# Altium integrated library Analog Devices Switches and Multiplexers Multiplexers (Muxes).IntLib: 481 symbols (part 3 of 23)
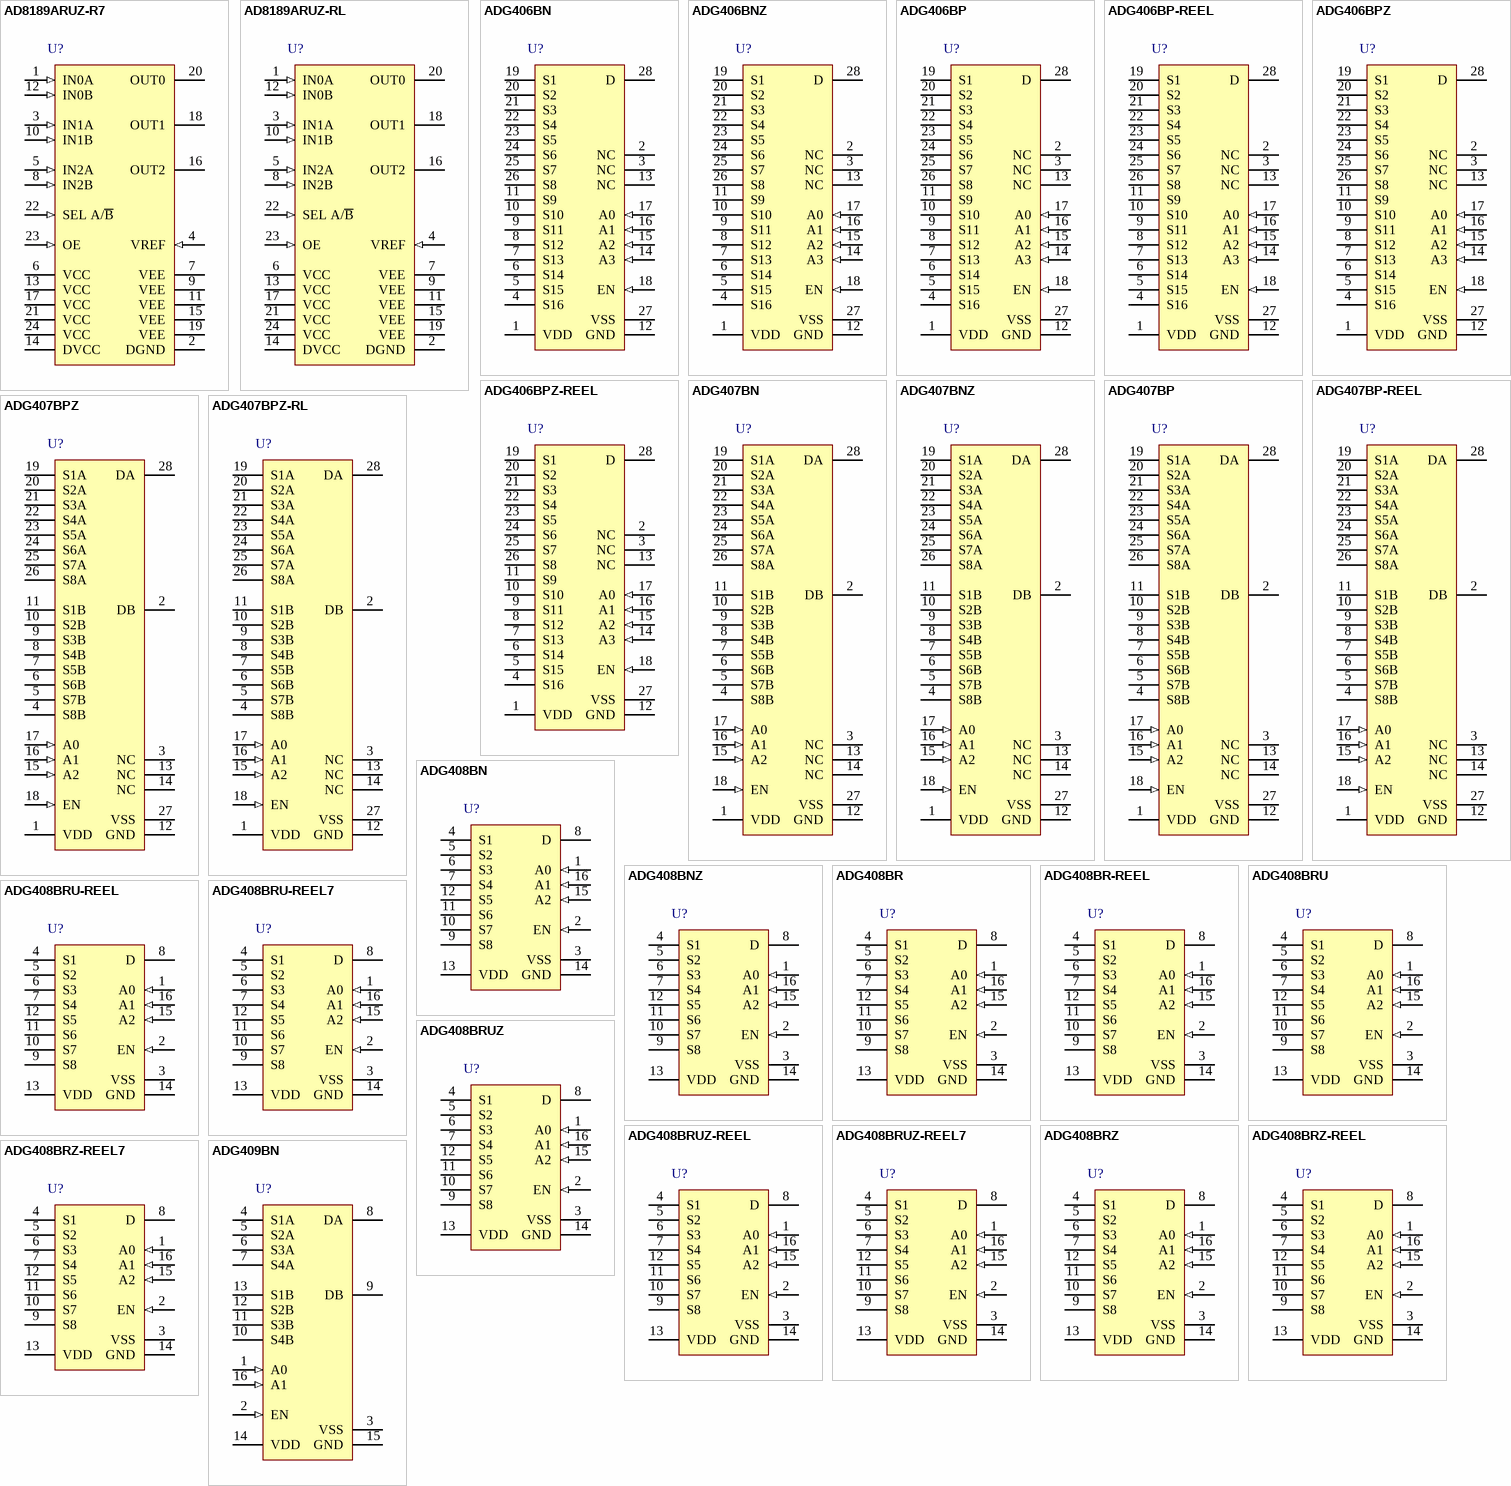
[diagram p19: symbols AD8189ARUZ-R7 to ADG409BN]

## AD8189ARUZ-R7
designator U?
350 MHz Single-Supply (5 V) Triple 2:1 Multiplexer, 24-pin SOP (RU-24), Reel; Manufacturer: Analog Devices; PartNumber: AD8189ARUZ-R7; Bandwidth (Hz): 350M; Max Analog Signal Range: 1.3V to 3.7V; t transition (s): 4n; DatasheetVersion: Rev. 0; PackageVersion: Nov-02; PackageReference: RU-24; PackageDescription: 24-Pin Thin Shrink Small Outline Package, Body 7.8 x 4.4 mm, Pitch 0.65 mm; Supplier 1: Digi-Key; Supplier Part Number 1: AD8189ARUZ-R7-ND; Supplier 2: Mouser; Supplier Part Number 2: 584-AD8189ARUZ-R7; Packing: Reel; Mounting Technology: Surface Mount; Code_JEDEC: MO-153AD; ComponentLink1Description: Manufacturer URL; ComponentLink1URL: http://www.analog.com/en/index.html; ComponentLink2Description: Datasheet; ComponentLink2URL: http://www.analog.com/static/imported-files/data_sheets/AD8188_8189.pdf; ComponentLink3Description: Package Specification; ComponentLink3URL: http://www.analog.com/static/imported-files/packages/380523655245964505593671154107510036154RU24.pdf
footprint ADI-RU-24_N (SOP, 24-Leads, Body 7.8x4.4mm, Pitch 0.65mm, IPC Medium Density)
footprint ADI-RU-24_L (SOP, 24-Leads, Body 7.8x4.4mm, Pitch 0.65mm, IPC High Density)
footprint ADI-RU-24_M (SOP, 24-Leads, Body 7.8x4.4mm, Pitch 0.65mm, IPC Low Density)
pins: 1 IN0A (in) "Input, High-ZIN. Routed to OUT0 when A is selected.", 2 DGND (power) "Ground Reference for Digital Control Circuitry.", 3 IN1A (in) "Input, High-ZIN. Routed to OUT1 when A is selected.", 4 VREF (in) "Input to reference buffers for all channels. Can be used to offset the outputs.", 5 IN2A (in) "Input, High-ZIN. Routed to OUT2 when A is selected.", 6 VCC (power) "Positive Analog Supply. Nominally 5 V higher than VEE.", 7 VEE (power) "Negative Analog Supply.", 8 IN2B (in) "Input, High-ZIN. Routed to OUT2 when B is selected.", 9 VEE (power) "Negative Analog Supply.", 10 IN1B (in) "Input, High-ZIN. Routed to OUT1 when B is selected.", 11 VEE (power) "Negative Analog Supply.", 12 IN0B (in) "Input, High-ZIN. Routed to OUT0 when B is selected.", 13 VCC (power) "Positive Analog Supply. Nominally 5 V higher than VEE.", 14 DVCC (power) "Positive Supply for Digital Control Circuitry. Referenced to DGND.", 15 VEE (power) "Negative Analog Supply.", 16 OUT2 (hiz) "Output. Can connect to IN2A, IN2B, or disable.", 17 VCC (power) "Positive Analog Supply. Nominally 5 V higher than VEE.", 18 OUT1 (hiz) "Output. Can connect to IN1A, IN1B, or disable.", 19 VEE (power) "Negative Analog Supply.", 20 OUT0 (hiz) "Output. Can connect to IN0A, IN0B, or disable.", 21 VCC (power) "Positive Analog Supply. Nominally 5 V higher than VEE.", 22 SEL A/~{B} (in) "Logic high selects the three A inputs. Logic low selects the three B inputs.", 23 OE (in) "Output Enable. Logic high enables the three outputs.", 24 VCC (power) "Positive Analog Supply. Nominally 5 V higher than VEE."

## AD8189ARUZ-RL
designator U?
350 MHz Single-Supply (5 V) Triple 2:1 Multiplexer, 24-pin SOP (RU-24), Reel; Manufacturer: Analog Devices; PartNumber: AD8189ARUZ-RL; Bandwidth (Hz): 350M; Max Analog Signal Range: 1.3V to 3.7V; t transition (s): 4n; DatasheetVersion: Rev. 0; PackageVersion: Nov-02; PackageReference: RU-24; PackageDescription: 24-Pin Thin Shrink Small Outline Package, Body 7.8 x 4.4 mm, Pitch 0.65 mm; Supplier 1: Digi-Key; Supplier Part Number 1: AD8189ARUZ-RL-ND; Supplier 2: Mouser; Supplier Part Number 2: 584-AD8189ARUZ-R; Packing: Reel; Mounting Technology: Surface Mount; Code_JEDEC: MO-153AD; ComponentLink1Description: Manufacturer URL; ComponentLink1URL: http://www.analog.com/en/index.html; ComponentLink2Description: Datasheet; ComponentLink2URL: http://www.analog.com/static/imported-files/data_sheets/AD8188_8189.pdf; ComponentLink3Description: Package Specification; ComponentLink3URL: http://www.analog.com/static/imported-files/packages/380523655245964505593671154107510036154RU24.pdf
footprint ADI-RU-24_N (SOP, 24-Leads, Body 7.8x4.4mm, Pitch 0.65mm, IPC Medium Density)
footprint ADI-RU-24_L (SOP, 24-Leads, Body 7.8x4.4mm, Pitch 0.65mm, IPC High Density)
footprint ADI-RU-24_M (SOP, 24-Leads, Body 7.8x4.4mm, Pitch 0.65mm, IPC Low Density)
pins: 1 IN0A (in) "Input, High-ZIN. Routed to OUT0 when A is selected.", 2 DGND (power) "Ground Reference for Digital Control Circuitry.", 3 IN1A (in) "Input, High-ZIN. Routed to OUT1 when A is selected.", 4 VREF (in) "Input to reference buffers for all channels. Can be used to offset the outputs.", 5 IN2A (in) "Input, High-ZIN. Routed to OUT2 when A is selected.", 6 VCC (power) "Positive Analog Supply. Nominally 5 V higher than VEE.", 7 VEE (power) "Negative Analog Supply.", 8 IN2B (in) "Input, High-ZIN. Routed to OUT2 when B is selected.", 9 VEE (power) "Negative Analog Supply.", 10 IN1B (in) "Input, High-ZIN. Routed to OUT1 when B is selected.", 11 VEE (power) "Negative Analog Supply.", 12 IN0B (in) "Input, High-ZIN. Routed to OUT0 when B is selected.", 13 VCC (power) "Positive Analog Supply. Nominally 5 V higher than VEE.", 14 DVCC (power) "Positive Supply for Digital Control Circuitry. Referenced to DGND.", 15 VEE (power) "Negative Analog Supply.", 16 OUT2 (hiz) "Output. Can connect to IN2A, IN2B, or disable.", 17 VCC (power) "Positive Analog Supply. Nominally 5 V higher than VEE.", 18 OUT1 (hiz) "Output. Can connect to IN1A, IN1B, or disable.", 19 VEE (power) "Negative Analog Supply.", 20 OUT0 (hiz) "Output. Can connect to IN0A, IN0B, or disable.", 21 VCC (power) "Positive Analog Supply. Nominally 5 V higher than VEE.", 22 SEL A/~{B} (in) "Logic high selects the three A inputs. Logic low selects the three B inputs.", 23 OE (in) "Output Enable. Logic high enables the three outputs.", 24 VCC (power) "Positive Analog Supply. Nominally 5 V higher than VEE."

## ADG406BN
designator U?
LC2MOS 16-Channel High Performance Analog Multiplexer, 50 Ohm / 90 Ohm Ron, 28-pin DIP (N-28-2), Tube; Manufacturer: Analog Devices; PartNumber: ADG406BN; Max Analog Signal Range: Vss to Vdd; Ron (ohms): 50; t transition (s): 120n; DatasheetVersion: Rev. B; PackageVersion: 071006-A, 07/2006; PackageReference: N-28-2; PackageDescription: 28-Pin Plastic Dual In-Line Package, Row spacing 15.24 mm, Pitch 2.54 mm; Supplier 1: Digi-Key; Supplier Part Number 1: ADG406BN-ND; Supplier 2: Mouser; Supplier Part Number 2: 584-ADG406BN; Packing: Tube; Mounting Technology: Through Hole; Code_JEDEC: MS-011; ComponentLink1Description: Manufacturer URL; ComponentLink1URL: http://www.analog.com/en/index.html; ComponentLink2Description: Datasheet; ComponentLink2URL: http://www.analog.com/static/imported-files/data_sheets/ADG406_407_426.pdf; ComponentLink3Description: Package Specification; ComponentLink3URL: http://www.analog.com/static/imported-files/packages/50849324123784N_28_2.pdf
footprint ADI-N-28-2 (DIP, 28-Leads, Body 37.4x13.52mm, Pitch 2.54mm)
pins: 1 VDD (power) "Most Positive Power Supply Potential.", 2 NC "No Connect.", 3 NC "No Connect.", 4 S16 "Source Terminal 16.The pin can be input and output.", 5 S15 "Source Terminal 15.The pin can be input and output.", 6 S14 "Source Terminal 14.The pin can be input and output.", 7 S13 "Source Terminal 13.The pin can be input and output.", 8 S12 "Source Terminal 12.The pin can be input and output.", 9 S11 "Source Terminal 11.The pin can be input and output.", 10 S10 "Source Terminal 10.The pin can be input and output.", 11 S9 "Source Terminal 9.The pin can be input and output.", 12 GND (power) "Ground (0 V) Reference.", 13 NC "No Connect.", 14 A3 (in) "Logic Control Input.", 15 A2 (in) "Logic Control Input.", 16 A1 (in) "Logic Control Input.", 17 A0 (in) "Logic Control Input.", 18 EN (in) "Active High Digital Input. When this pin is low, the device is disabled and all switches are turned off. When this pin is high, the Ax logic inputs determine which switch is turned on.", 19 S1 "Source Terminal 1. These pins can be inputs or outputs.", 20 S2 "Source Terminal 2. These pins can be inputs or outputs.", 21 S3 "Source Terminal 3. These pins can be inputs or outputs.", 22 S4 "Source Terminal 4. These pins can be inputs or outputs.", 23 S5 "Source Terminal 5. These pins can be inputs or outputs.", 24 S6 "Source Terminal 6. These pins can be inputs or outputs.", 25 S7 "Source Terminal 7. These pins can be inputs or outputs.", 26 S8 "Source Terminal 8. These pins can be inputs or outputs.", 27 VSS (power) "Most Negative Power Supply Potential. In single-supply applications, this pin can be connected to ground.", 28 D "Drain Terminal. This pin can be an input or an output."

## ADG406BNZ
designator U?
LC2MOS 16-Channel High Performance Analog Multiplexer, 50 Ohm / 90 Ohm Ron, 28-pin DIP (N-28-2), Tube; Manufacturer: Analog Devices; PartNumber: ADG406BNZ; Max Analog Signal Range: Vss to Vdd; Ron (ohms): 50; t transition (s): 120n; DatasheetVersion: Rev. B; PackageVersion: 071006-A, 07/2006; PackageReference: N-28-2; PackageDescription: 28-Pin Plastic Dual In-Line Package, Row spacing 15.24 mm, Pitch 2.54 mm; Supplier 1: Digi-Key; Supplier Part Number 1: ADG406BNZ-ND; Supplier 2: Farnell; Supplier Part Number 2: 9605576; Supplier 3: Newark; Supplier Part Number 3: 59K1226; Supplier 4: Mouser; Supplier Part Number 4: 584-ADG406BNZ; Packing: Tube; Mounting Technology: Through Hole; Code_JEDEC: MS-011; ComponentLink1Description: Manufacturer URL; ComponentLink1URL: http://www.analog.com/en/index.html; ComponentLink2Description: Datasheet; ComponentLink2URL: http://www.analog.com/static/imported-files/data_sheets/ADG406_407_426.pdf; ComponentLink3Description: Package Specification; ComponentLink3URL: http://www.analog.com/static/imported-files/packages/50849324123784N_28_2.pdf
footprint ADI-N-28-2 (DIP, 28-Leads, Body 37.4x13.52mm, Pitch 2.54mm)
pins: 1 VDD (power) "Most Positive Power Supply Potential.", 2 NC "No Connect.", 3 NC "No Connect.", 4 S16 "Source Terminal 16.The pin can be input and output.", 5 S15 "Source Terminal 15.The pin can be input and output.", 6 S14 "Source Terminal 14.The pin can be input and output.", 7 S13 "Source Terminal 13.The pin can be input and output.", 8 S12 "Source Terminal 12.The pin can be input and output.", 9 S11 "Source Terminal 11.The pin can be input and output.", 10 S10 "Source Terminal 10.The pin can be input and output.", 11 S9 "Source Terminal 9.The pin can be input and output.", 12 GND (power) "Ground (0 V) Reference.", 13 NC "No Connect.", 14 A3 (in) "Logic Control Input.", 15 A2 (in) "Logic Control Input.", 16 A1 (in) "Logic Control Input.", 17 A0 (in) "Logic Control Input.", 18 EN (in) "Active High Digital Input. When this pin is low, the device is disabled and all switches are turned off. When this pin is high, the Ax logic inputs determine which switch is turned on.", 19 S1 "Source Terminal 1. These pins can be inputs or outputs.", 20 S2 "Source Terminal 2. These pins can be inputs or outputs.", 21 S3 "Source Terminal 3. These pins can be inputs or outputs.", 22 S4 "Source Terminal 4. These pins can be inputs or outputs.", 23 S5 "Source Terminal 5. These pins can be inputs or outputs.", 24 S6 "Source Terminal 6. These pins can be inputs or outputs.", 25 S7 "Source Terminal 7. These pins can be inputs or outputs.", 26 S8 "Source Terminal 8. These pins can be inputs or outputs.", 27 VSS (power) "Most Negative Power Supply Potential. In single-supply applications, this pin can be connected to ground.", 28 D "Drain Terminal. This pin can be an input or an output."

## ADG406BP
designator U?
LC2MOS 16-Channel High Performance Analog Multiplexer, 50 Ohm / 90 Ohm Ron, 28-pin PLCC (P-28), Tube; Manufacturer: Analog Devices; PartNumber: ADG406BP; Max Analog Signal Range: Vss to Vdd; Ron (ohms): 50; t transition (s): 120n; DatasheetVersion: Rev. B; PackageVersion: 042508-A, 04/2008; PackageReference: P-28; PackageDescription: 28-Pin Plastic Leaded Chip Carrier, Body 11.51 x 11.51 mm, Pitch 1.27 mm; Supplier 1: Digi-Key; Supplier Part Number 1: ADG406BP-ND; Supplier 2: Newark; Supplier Part Number 2: 05F6192; Supplier 3: Mouser; Supplier Part Number 3: 584-ADG406BP; Packing: Tube; Mounting Technology: Surface Mount; Code_JEDEC: MO-047-AB; ComponentLink1Description: Manufacturer URL; ComponentLink1URL: http://www.analog.com/en/index.html; ComponentLink2Description: Datasheet; ComponentLink2URL: http://www.analog.com/static/imported-files/data_sheets/ADG406_407_426.pdf; ComponentLink3Description: Package Specification; ComponentLink3URL: http://www.analog.com/static/imported-files/packages/PKG_PDF/PLCC(P)/P_28.pdf
footprint ADI-P-28_N (PLCC, 28-Leads, Body 11.51x11.51mm, Pitch 1.27mm, IPC Medium Density)
footprint ADI-P-28_L (PLCC, 28-Leads, Body 11.51x11.51mm, Pitch 1.27mm, IPC High Density)
footprint ADI-P-28_M (PLCC, 28-Leads, Body 11.51x11.51mm, Pitch 1.27mm, IPC Low Density)
pins: 1 VDD (power) "Most Positive Power Supply Potential.", 2 NC "No Connect.", 3 NC "No Connect.", 4 S16 "Source Terminal 16 Can be an input or an output.", 5 S15 "Source Terminal 15 Can be an input or an output.", 6 S14 "Source Terminal 14 Can be an input or an output.", 7 S13 "Source Terminal 13 Can be an input or an output.", 8 S12 "Source Terminal 12 Can be an input or an output.", 9 S11 "Source Terminal 11 Can be an input or an output.", 10 S10 "Source Terminal 10 Can be an input or an output.", 11 S9 "Source Terminal 9 Can be an input or an output.", 12 GND (power) "Ground (0 V) Reference.", 13 NC "No Connect.", 14 A3 (in) "Logic Control Input.", 15 A2 (in) "Logic Control Input.", 16 A1 (in) "Logic Control Input.", 17 A0 (in) "Logic Control Input.", 18 EN (in) "Active High Digital Input. When this pin is low, the device is disabled and all switches are turned off. When this pin  is high, the Ax logic inputs determine which switch is turned on.", 19 S1 "Source Terminal 1 Can be an input or an output.", 20 S2 "Source Terminal 2 Can be an input or an output.", 21 S3 "Source Terminal 3 Can be an input or an output.", 22 S4 "Source Terminal 4 Can be an input or an output.", 23 S5 "Source Terminal 5 Can be an input or an output.", 24 S6 "Source Terminal 6 Can be an input or an output.", 25 S7 "Source Terminal 7 Can be an input or an output.", 26 S8 "Source Terminal 8 Can be an input or an output.", 27 VSS (power) "Most Negative Power Supply Potential. In single-supply applications, this pin can be connected to ground.", 28 D "Drain Terminal. This pin can be an input or an output."

## ADG406BP-REEL
designator U?
LC2MOS 16-Channel High Performance Analog Multiplexer, 50 Ohm / 90 Ohm Ron, 28-pin PLCC (P-28), Reel; Manufacturer: Analog Devices; PartNumber: ADG406BP-REEL; Max Analog Signal Range: Vss to Vdd; Ron (ohms): 50; t transition (s): 120n; DatasheetVersion: Rev. B; PackageVersion: 042508-A, 04/2008; PackageReference: P-28; PackageDescription: 28-Pin Plastic Leaded Chip Carrier, Body 11.51 x 11.51 mm, Pitch 1.27 mm; Supplier 1: Digi-Key; Supplier Part Number 1: ADG406BP-REELTR-ND; Supplier 2: Digi-Key; Supplier Part Number 2: ADG406BP-REELCT-ND; Supplier 3: Newark; Supplier Part Number 3: 09B7007; Supplier 4: Mouser; Supplier Part Number 4: 584-ADG406BP-R; Packing: Reel; Mounting Technology: Surface Mount; Code_JEDEC: MO-047-AB; ComponentLink1Description: Manufacturer URL; ComponentLink1URL: http://www.analog.com/en/index.html; ComponentLink2Description: Datasheet; ComponentLink2URL: http://www.analog.com/static/imported-files/data_sheets/ADG406_407_426.pdf; ComponentLink3Description: Package Specification; ComponentLink3URL: http://www.analog.com/static/imported-files/packages/PKG_PDF/PLCC(P)/P_28.pdf
footprint ADI-P-28_N (PLCC, 28-Leads, Body 11.51x11.51mm, Pitch 1.27mm, IPC Medium Density)
footprint ADI-P-28_L (PLCC, 28-Leads, Body 11.51x11.51mm, Pitch 1.27mm, IPC High Density)
footprint ADI-P-28_M (PLCC, 28-Leads, Body 11.51x11.51mm, Pitch 1.27mm, IPC Low Density)
pins: 1 VDD (power) "Most Positive Power Supply Potential.", 2 NC "No Connect.", 3 NC "No Connect.", 4 S16 "Source Terminal 16 Can be an input or an output.", 5 S15 "Source Terminal 15 Can be an input or an output.", 6 S14 "Source Terminal 14 Can be an input or an output.", 7 S13 "Source Terminal 13 Can be an input or an output.", 8 S12 "Source Terminal 12 Can be an input or an output.", 9 S11 "Source Terminal 11 Can be an input or an output.", 10 S10 "Source Terminal 10 Can be an input or an output.", 11 S9 "Source Terminal 9 Can be an input or an output.", 12 GND (power) "Ground (0 V) Reference.", 13 NC "No Connect.", 14 A3 (in) "Logic Control Input.", 15 A2 (in) "Logic Control Input.", 16 A1 (in) "Logic Control Input.", 17 A0 (in) "Logic Control Input.", 18 EN (in) "Active High Digital Input. When this pin is low, the device is disabled and all switches are turned off. When this pin  is high, the Ax logic inputs determine which switch is turned on.", 19 S1 "Source Terminal 1 Can be an input or an output.", 20 S2 "Source Terminal 2 Can be an input or an output.", 21 S3 "Source Terminal 3 Can be an input or an output.", 22 S4 "Source Terminal 4 Can be an input or an output.", 23 S5 "Source Terminal 5 Can be an input or an output.", 24 S6 "Source Terminal 6 Can be an input or an output.", 25 S7 "Source Terminal 7 Can be an input or an output.", 26 S8 "Source Terminal 8 Can be an input or an output.", 27 VSS (power) "Most Negative Power Supply Potential. In single-supply applications, this pin can be connected to ground.", 28 D "Drain Terminal. This pin can be an input or an output."

## ADG406BPZ
designator U?
LC2MOS 16-Channel High Performance Analog Multiplexer, 50 Ohm / 90 Ohm Ron, 28-pin PLCC (P-28), Tube; Manufacturer: Analog Devices; PartNumber: ADG406BPZ; Max Analog Signal Range: Vss to Vdd; Ron (ohms): 50; t transition (s): 120n; DatasheetVersion: Rev. B; PackageVersion: 042508-A, 04/2008; PackageReference: P-28; PackageDescription: 28-Pin Plastic Leaded Chip Carrier, Body 11.51 x 11.51 mm, Pitch 1.27 mm; Supplier 1: Digi-Key; Supplier Part Number 1: ADG406BPZ-ND; Supplier 2: Farnell; Supplier Part Number 2: 2305791; Supplier 3: Newark; Supplier Part Number 3: 59K1227; Supplier 4: Mouser; Supplier Part Number 4: 584-ADG406BPZ; Packing: Tube; Mounting Technology: Surface Mount; Code_JEDEC: MO-047-AB; ComponentLink1Description: Manufacturer URL; ComponentLink1URL: http://www.analog.com/en/index.html; ComponentLink2Description: Datasheet; ComponentLink2URL: http://www.analog.com/static/imported-files/data_sheets/ADG406_407_426.pdf; ComponentLink3Description: Package Specification; ComponentLink3URL: http://www.analog.com/static/imported-files/packages/PKG_PDF/PLCC(P)/P_28.pdf
footprint ADI-P-28_N (PLCC, 28-Leads, Body 11.51x11.51mm, Pitch 1.27mm, IPC Medium Density)
footprint ADI-P-28_L (PLCC, 28-Leads, Body 11.51x11.51mm, Pitch 1.27mm, IPC High Density)
footprint ADI-P-28_M (PLCC, 28-Leads, Body 11.51x11.51mm, Pitch 1.27mm, IPC Low Density)
pins: 1 VDD (power) "Most Positive Power Supply Potential.", 2 NC "No Connect.", 3 NC "No Connect.", 4 S16 "Source Terminal 16 Can be an input or an output.", 5 S15 "Source Terminal 15 Can be an input or an output.", 6 S14 "Source Terminal 14 Can be an input or an output.", 7 S13 "Source Terminal 13 Can be an input or an output.", 8 S12 "Source Terminal 12 Can be an input or an output.", 9 S11 "Source Terminal 11 Can be an input or an output.", 10 S10 "Source Terminal 10 Can be an input or an output.", 11 S9 "Source Terminal 9 Can be an input or an output.", 12 GND (power) "Ground (0 V) Reference.", 13 NC "No Connect.", 14 A3 (in) "Logic Control Input.", 15 A2 (in) "Logic Control Input.", 16 A1 (in) "Logic Control Input.", 17 A0 (in) "Logic Control Input.", 18 EN (in) "Active High Digital Input. When this pin is low, the device is disabled and all switches are turned off. When this pin  is high, the Ax logic inputs determine which switch is turned on.", 19 S1 "Source Terminal 1 Can be an input or an output.", 20 S2 "Source Terminal 2 Can be an input or an output.", 21 S3 "Source Terminal 3 Can be an input or an output.", 22 S4 "Source Terminal 4 Can be an input or an output.", 23 S5 "Source Terminal 5 Can be an input or an output.", 24 S6 "Source Terminal 6 Can be an input or an output.", 25 S7 "Source Terminal 7 Can be an input or an output.", 26 S8 "Source Terminal 8 Can be an input or an output.", 27 VSS (power) "Most Negative Power Supply Potential. In single-supply applications, this pin can be connected to ground.", 28 D "Drain Terminal. This pin can be an input or an output."

## ADG406BPZ-REEL
designator U?
LC2MOS 16-Channel High Performance Analog Multiplexer, 50 Ohm / 90 Ohm Ron, 28-pin PLCC (P-28), Reel; Manufacturer: Analog Devices; PartNumber: ADG406BPZ-REEL; Max Analog Signal Range: Vss to Vdd; Ron (ohms): 50; t transition (s): 120n; DatasheetVersion: Rev. B; PackageVersion: 042508-A, 04/2008; PackageReference: P-28; PackageDescription: 28-Pin Plastic Leaded Chip Carrier, Body 11.51 x 11.51 mm, Pitch 1.27 mm; Supplier 1: Digi-Key; Supplier Part Number 1: ADG406BPZ-REELTR-ND; Supplier 2: Digi-Key; Supplier Part Number 2: ADG406BPZ-REELCT-ND; Supplier 3: Digi-Key; Supplier Part Number 3: ADG406BPZ-REELDKR-ND; Supplier 4: Newark; Supplier Part Number 4: 59K1228; Supplier 5: Mouser; Supplier Part Number 5: 584-ADG406BPZ-R; Packing: Reel; Mounting Technology: Surface Mount; Code_JEDEC: MO-047-AB; ComponentLink1Description: Manufacturer URL; ComponentLink1URL: http://www.analog.com/en/index.html; ComponentLink2Description: Datasheet; ComponentLink2URL: http://www.analog.com/static/imported-files/data_sheets/ADG406_407_426.pdf; ComponentLink3Description: Package Specification; ComponentLink3URL: http://www.analog.com/static/imported-files/packages/PKG_PDF/PLCC(P)/P_28.pdf
footprint ADI-P-28_N (PLCC, 28-Leads, Body 11.51x11.51mm, Pitch 1.27mm, IPC Medium Density)
footprint ADI-P-28_L (PLCC, 28-Leads, Body 11.51x11.51mm, Pitch 1.27mm, IPC High Density)
footprint ADI-P-28_M (PLCC, 28-Leads, Body 11.51x11.51mm, Pitch 1.27mm, IPC Low Density)
pins: 1 VDD (power) "Most Positive Power Supply Potential.", 2 NC "No Connect.", 3 NC "No Connect.", 4 S16 "Source Terminal 16 Can be an input or an output.", 5 S15 "Source Terminal 15 Can be an input or an output.", 6 S14 "Source Terminal 14 Can be an input or an output.", 7 S13 "Source Terminal 13 Can be an input or an output.", 8 S12 "Source Terminal 12 Can be an input or an output.", 9 S11 "Source Terminal 11 Can be an input or an output.", 10 S10 "Source Terminal 10 Can be an input or an output.", 11 S9 "Source Terminal 9 Can be an input or an output.", 12 GND (power) "Ground (0 V) Reference.", 13 NC "No Connect.", 14 A3 (in) "Logic Control Input.", 15 A2 (in) "Logic Control Input.", 16 A1 (in) "Logic Control Input.", 17 A0 (in) "Logic Control Input.", 18 EN (in) "Active High Digital Input. When this pin is low, the device is disabled and all switches are turned off. When this pin  is high, the Ax logic inputs determine which switch is turned on.", 19 S1 "Source Terminal 1 Can be an input or an output.", 20 S2 "Source Terminal 2 Can be an input or an output.", 21 S3 "Source Terminal 3 Can be an input or an output.", 22 S4 "Source Terminal 4 Can be an input or an output.", 23 S5 "Source Terminal 5 Can be an input or an output.", 24 S6 "Source Terminal 6 Can be an input or an output.", 25 S7 "Source Terminal 7 Can be an input or an output.", 26 S8 "Source Terminal 8 Can be an input or an output.", 27 VSS (power) "Most Negative Power Supply Potential. In single-supply applications, this pin can be connected to ground.", 28 D "Drain Terminal. This pin can be an input or an output."

## ADG407BN
designator U?
LC2MOS 8-Channel High Performance Analog Multiplexer, 50 Ohm / 90 Ohm Ron, 28-pin DIP (N-28-2), Tube; Manufacturer: Analog Devices; PartNumber: ADG407BN; Max Analog Signal Range: Vss to Vdd; Ron (ohms): 50; t transition (s): 120n; DatasheetVersion: Rev. B; PackageVersion: 071006-A, 07/2006; PackageReference: N-28-2; PackageDescription: 28-Pin Plastic Dual In-Line Package, Row spacing 15.24 mm, Pitch 2.54 mm; Supplier 1: Digi-Key; Supplier Part Number 1: ADG407BN-ND; Packing: Tube; Mounting Technology: Through Hole; Code_JEDEC: MS-011; ComponentLink1Description: Manufacturer URL; ComponentLink1URL: http://www.analog.com/en/index.html; ComponentLink2Description: Datasheet; ComponentLink2URL: http://www.analog.com/static/imported-files/data_sheets/ADG406_407_426.pdf; ComponentLink3Description: Package Specification; ComponentLink3URL: http://www.analog.com/static/imported-files/packages/50849324123784N_28_2.pdf
footprint ADI-N-28-2 (DIP, 28-Leads, Body 37.4x13.52mm, Pitch 2.54mm)
pins: 1 VDD (power) "Most Positive Power Supply Potential.", 2 DB "Drain Terminal B. This pin can be an input or an output.", 3 NC "No Connect.", 4 S8B "Source Terminal 8B ,Can be an input or an output.", 5 S7B "Source Terminal 7B ,Can be an input or an output.", 6 S6B "Source Terminal 6B ,Can be an input or an output.", 7 S5B "Source Terminal 5B ,Can be an input or an output.", 8 S4B "Source Terminal 4B ,Can be an input or an output.", 9 S3B "Source Terminal 3B ,Can be an input or an output.", 10 S2B "Source Terminal 2B ,Can be an input or an output.", 11 S1B "Source Terminal 1B ,Can be an input or an output.", 12 GND (power) "Ground (0 V) Reference", 13 NC "No Connect.", 14 NC "No Connect.", 15 A2 (in) "Logic Control Input.", 16 A1 (in) "Logic Control Input.", 17 A0 (in) "Logic Control Input.", 18 EN (in) "Active High Digital Input. When this pin is low, the device is disabled and all switches are turned off. When this pin  is high, the Ax logic inputs determine which switch is turned on.", 19 S1A "Source Terminal 1A ,Can be an input or an output.", 20 S2A "Source Terminal 2A ,Can be an input or an output.", 21 S3A "Source Terminal 3A ,Can be an input or an output.", 22 S4A "Source Terminal 4A ,Can be an input or an output.", 23 S5A "Source Terminal 5A ,Can be an input or an output.", 24 S6A "Source Terminal 6A ,Can be an input or an output.", 25 S7A "Source Terminal 7A ,Can be an input or an output.", 26 S8A "Source Terminal 8A ,Can be an input or an output.", 27 VSS (power) "Most Negative Power Supply Potential. In single-supply applications, this pin can be connected to ground.", 28 DA "Drain Terminal A. This pin can be an input or an output."

## ADG407BNZ
designator U?
LC2MOS 8-Channel High Performance Analog Multiplexer, 50 Ohm / 90 Ohm Ron, 28-pin DIP (N-28-2), Tube; Manufacturer: Analog Devices; PartNumber: ADG407BNZ; Max Analog Signal Range: Vss to Vdd; Ron (ohms): 50; t transition (s): 120n; DatasheetVersion: Rev. B; PackageVersion: 071006-A, 07/2006; PackageReference: N-28-2; PackageDescription: 28-Pin Plastic Dual In-Line Package, Row spacing 15.24 mm, Pitch 2.54 mm; Supplier 1: Digi-Key; Supplier Part Number 1: ADG407BNZ-ND; Supplier 2: Farnell; Supplier Part Number 2: 1079429; Supplier 3: Newark; Supplier Part Number 3: 59K1229; Supplier 4: Mouser; Supplier Part Number 4: 584-ADG407BNZ; Packing: Tube; Mounting Technology: Through Hole; Code_JEDEC: MS-011; ComponentLink1Description: Manufacturer URL; ComponentLink1URL: http://www.analog.com/en/index.html; ComponentLink2Description: Datasheet; ComponentLink2URL: http://www.analog.com/static/imported-files/data_sheets/ADG406_407_426.pdf; ComponentLink3Description: Package Specification; ComponentLink3URL: http://www.analog.com/static/imported-files/packages/50849324123784N_28_2.pdf
footprint ADI-N-28-2 (DIP, 28-Leads, Body 37.4x13.52mm, Pitch 2.54mm)
pins: 1 VDD (power) "Most Positive Power Supply Potential.", 2 DB "Drain Terminal B. This pin can be an input or an output.", 3 NC "No Connect.", 4 S8B "Source Terminal 8B ,Can be an input or an output.", 5 S7B "Source Terminal 7B ,Can be an input or an output.", 6 S6B "Source Terminal 6B ,Can be an input or an output.", 7 S5B "Source Terminal 5B ,Can be an input or an output.", 8 S4B "Source Terminal 4B ,Can be an input or an output.", 9 S3B "Source Terminal 3B ,Can be an input or an output.", 10 S2B "Source Terminal 2B ,Can be an input or an output.", 11 S1B "Source Terminal 1B ,Can be an input or an output.", 12 GND (power) "Ground (0 V) Reference", 13 NC "No Connect.", 14 NC "No Connect.", 15 A2 (in) "Logic Control Input.", 16 A1 (in) "Logic Control Input.", 17 A0 (in) "Logic Control Input.", 18 EN (in) "Active High Digital Input. When this pin is low, the device is disabled and all switches are turned off. When this pin  is high, the Ax logic inputs determine which switch is turned on.", 19 S1A "Source Terminal 1A ,Can be an input or an output.", 20 S2A "Source Terminal 2A ,Can be an input or an output.", 21 S3A "Source Terminal 3A ,Can be an input or an output.", 22 S4A "Source Terminal 4A ,Can be an input or an output.", 23 S5A "Source Terminal 5A ,Can be an input or an output.", 24 S6A "Source Terminal 6A ,Can be an input or an output.", 25 S7A "Source Terminal 7A ,Can be an input or an output.", 26 S8A "Source Terminal 8A ,Can be an input or an output.", 27 VSS (power) "Most Negative Power Supply Potential. In single-supply applications, this pin can be connected to ground.", 28 DA "Drain Terminal A. This pin can be an input or an output."

## ADG407BP
designator U?
LC2MOS 8-Channel High Performance Analog Multiplexer, 50 Ohm / 90 Ohm Ron, 28-pin PLCC (P-28), Tube; Manufacturer: Analog Devices; PartNumber: ADG407BP; Max Analog Signal Range: Vss to Vdd; Ron (ohms): 50; t transition (s): 120n; DatasheetVersion: Rev. B; PackageVersion: 042508-A, 04/2008; PackageReference: P-28; PackageDescription: 28-Pin Plastic Leaded Chip Carrier, Body 11.51 x 11.51 mm, Pitch 1.27 mm; Supplier 1: Digi-Key; Supplier Part Number 1: ADG407BP-ND; Supplier 2: Mouser; Supplier Part Number 2: 584-ADG407BP; Packing: Tube; Mounting Technology: Surface Mount; Code_JEDEC: MO-047-AB; ComponentLink1Description: Manufacturer URL; ComponentLink1URL: http://www.analog.com/en/index.html; ComponentLink2Description: Datasheet; ComponentLink2URL: http://www.analog.com/static/imported-files/data_sheets/ADG406_407_426.pdf; ComponentLink3Description: Package Specification; ComponentLink3URL: http://www.analog.com/static/imported-files/packages/PKG_PDF/PLCC(P)/P_28.pdf
footprint ADI-P-28_N (PLCC, 28-Leads, Body 11.51x11.51mm, Pitch 1.27mm, IPC Medium Density)
footprint ADI-P-28_L (PLCC, 28-Leads, Body 11.51x11.51mm, Pitch 1.27mm, IPC High Density)
footprint ADI-P-28_M (PLCC, 28-Leads, Body 11.51x11.51mm, Pitch 1.27mm, IPC Low Density)
pins: 1 VDD (power) "Most Positive Power Supply Potential.", 2 DB "Drain Terminal B. This pin can be an input or an output.", 3 NC "No Connect.", 4 S8B "Source Terminal 8B . This pin can be input or output.", 5 S7B "Source Terminal 7B . This pin can be input or output.", 6 S6B "Source Terminal 6B . This pin can be input or output.", 7 S5B "Source Terminal 5B . This pin can be input or output.", 8 S4B "Source Terminal 4B . This pin can be input or output.", 9 S3B "Source Terminal 3B . This pin can be input or output.", 10 S2B "Source Terminal 2B . This pin can be input or output.", 11 S1B "Source Terminal 1B . This pin can be input or output.", 12 GND (power) "Ground (0 V) Reference.", 13 NC "No Connect.", 14 NC "No Connect.", 15 A2 (in) "Logic Control Input.", 16 A1 (in) "Logic Control Input.", 17 A0 (in) "Logic Control Input.", 18 EN (in) "Active High Digital Input. When this pin is low, the device is disabled and all switches are turned off. When this pin is high, the Ax logic inputs determine which switch is turned on.", 19 S1A "Source Terminal 1A. This pin can be input or output.", 20 S2A "Source Terminal 2A. This pin can be input or output.", 21 S3A "Source Terminal 3A. This pin can be input or output.", 22 S4A "Source Terminal 4A. This pin can be input or output.", 23 S5A "Source Terminal 5A. This pin can be input or output.", 24 S6A "Source Terminal 6A. This pin can be input or output.", 25 S7A "Source Terminal 7A. This pin can be input or output.", 26 S8A "Source Terminal 8A. This pin can be input or output.", 27 VSS (power) "Most Negative Power Supply Potential. In single-supply applications, this pin can be connected to ground.", 28 DA "Drain Terminal A. This pin can be an input or an output."

## ADG407BP-REEL
designator U?
LC2MOS 8-Channel High Performance Analog Multiplexer, 50 Ohm / 90 Ohm Ron, 28-pin PLCC (P-28), Reel; Manufacturer: Analog Devices; PartNumber: ADG407BP-REEL; Max Analog Signal Range: Vss to Vdd; Ron (ohms): 50; t transition (s): 120n; DatasheetVersion: Rev. B; PackageVersion: 042508-A, 04/2008; PackageReference: P-28; PackageDescription: 28-Pin Plastic Leaded Chip Carrier, Body 11.51 x 11.51 mm, Pitch 1.27 mm; Supplier 1: Digi-Key; Supplier Part Number 1: ADG407BP-REEL-ND; Supplier 2: Newark; Supplier Part Number 2: 09B7008; Supplier 3: Mouser; Supplier Part Number 3: 584-ADG407BP-R; Packing: Reel; Mounting Technology: Surface Mount; Code_JEDEC: MO-047-AB; ComponentLink1Description: Manufacturer URL; ComponentLink1URL: http://www.analog.com/en/index.html; ComponentLink2Description: Datasheet; ComponentLink2URL: http://www.analog.com/static/imported-files/data_sheets/ADG406_407_426.pdf; ComponentLink3Description: Package Specification; ComponentLink3URL: http://www.analog.com/static/imported-files/packages/PKG_PDF/PLCC(P)/P_28.pdf
footprint ADI-P-28_N (PLCC, 28-Leads, Body 11.51x11.51mm, Pitch 1.27mm, IPC Medium Density)
footprint ADI-P-28_L (PLCC, 28-Leads, Body 11.51x11.51mm, Pitch 1.27mm, IPC High Density)
footprint ADI-P-28_M (PLCC, 28-Leads, Body 11.51x11.51mm, Pitch 1.27mm, IPC Low Density)
pins: 1 VDD (power) "Most Positive Power Supply Potential.", 2 DB "Drain Terminal B. This pin can be an input or an output.", 3 NC "No Connect.", 4 S8B "Source Terminal 8B . This pin can be input or output.", 5 S7B "Source Terminal 7B . This pin can be input or output.", 6 S6B "Source Terminal 6B . This pin can be input or output.", 7 S5B "Source Terminal 5B . This pin can be input or output.", 8 S4B "Source Terminal 4B . This pin can be input or output.", 9 S3B "Source Terminal 3B . This pin can be input or output.", 10 S2B "Source Terminal 2B . This pin can be input or output.", 11 S1B "Source Terminal 1B . This pin can be input or output.", 12 GND (power) "Ground (0 V) Reference.", 13 NC "No Connect.", 14 NC "No Connect.", 15 A2 (in) "Logic Control Input.", 16 A1 (in) "Logic Control Input.", 17 A0 (in) "Logic Control Input.", 18 EN (in) "Active High Digital Input. When this pin is low, the device is disabled and all switches are turned off. When this pin is high, the Ax logic inputs determine which switch is turned on.", 19 S1A "Source Terminal 1A. This pin can be input or output.", 20 S2A "Source Terminal 2A. This pin can be input or output.", 21 S3A "Source Terminal 3A. This pin can be input or output.", 22 S4A "Source Terminal 4A. This pin can be input or output.", 23 S5A "Source Terminal 5A. This pin can be input or output.", 24 S6A "Source Terminal 6A. This pin can be input or output.", 25 S7A "Source Terminal 7A. This pin can be input or output.", 26 S8A "Source Terminal 8A. This pin can be input or output.", 27 VSS (power) "Most Negative Power Supply Potential. In single-supply applications, this pin can be connected to ground.", 28 DA "Drain Terminal A. This pin can be an input or an output."

## ADG407BPZ
designator U?
LC2MOS 8-Channel High Performance Analog Multiplexer, 50 Ohm / 90 Ohm Ron, 28-pin PLCC (P-28), Tube; Manufacturer: Analog Devices; PartNumber: ADG407BPZ; Max Analog Signal Range: Vss to Vdd; Ron (ohms): 50; t transition (s): 120n; DatasheetVersion: Rev. B; PackageVersion: 042508-A, 04/2008; PackageReference: P-28; PackageDescription: 28-Pin Plastic Leaded Chip Carrier, Body 11.51 x 11.51 mm, Pitch 1.27 mm; Supplier 1: Digi-Key; Supplier Part Number 1: ADG407BPZ-ND; Supplier 2: Newark; Supplier Part Number 2: 19M8645; Supplier 3: Mouser; Supplier Part Number 3: 584-ADG407BPZ; Packing: Tube; Mounting Technology: Surface Mount; Code_JEDEC: MO-047-AB; ComponentLink1Description: Manufacturer URL; ComponentLink1URL: http://www.analog.com/en/index.html; ComponentLink2Description: Datasheet; ComponentLink2URL: http://www.analog.com/static/imported-files/data_sheets/ADG406_407_426.pdf; ComponentLink3Description: Package Specification; ComponentLink3URL: http://www.analog.com/static/imported-files/packages/PKG_PDF/PLCC(P)/P_28.pdf
footprint ADI-P-28_N (PLCC, 28-Leads, Body 11.51x11.51mm, Pitch 1.27mm, IPC Medium Density)
footprint ADI-P-28_L (PLCC, 28-Leads, Body 11.51x11.51mm, Pitch 1.27mm, IPC High Density)
footprint ADI-P-28_M (PLCC, 28-Leads, Body 11.51x11.51mm, Pitch 1.27mm, IPC Low Density)
pins: 1 VDD (power) "Most Positive Power Supply Potential.", 2 DB "Drain Terminal B. This pin can be an input or an output.", 3 NC "No Connect.", 4 S8B "Source Terminal 8B . This pin can be input or output.", 5 S7B "Source Terminal 7B . This pin can be input or output.", 6 S6B "Source Terminal 6B . This pin can be input or output.", 7 S5B "Source Terminal 5B . This pin can be input or output.", 8 S4B "Source Terminal 4B . This pin can be input or output.", 9 S3B "Source Terminal 3B . This pin can be input or output.", 10 S2B "Source Terminal 2B . This pin can be input or output.", 11 S1B "Source Terminal 1B . This pin can be input or output.", 12 GND (power) "Ground (0 V) Reference.", 13 NC "No Connect.", 14 NC "No Connect.", 15 A2 (in) "Logic Control Input.", 16 A1 (in) "Logic Control Input.", 17 A0 (in) "Logic Control Input.", 18 EN (in) "Active High Digital Input. When this pin is low, the device is disabled and all switches are turned off. When this pin is high, the Ax logic inputs determine which switch is turned on.", 19 S1A "Source Terminal 1A. This pin can be input or output.", 20 S2A "Source Terminal 2A. This pin can be input or output.", 21 S3A "Source Terminal 3A. This pin can be input or output.", 22 S4A "Source Terminal 4A. This pin can be input or output.", 23 S5A "Source Terminal 5A. This pin can be input or output.", 24 S6A "Source Terminal 6A. This pin can be input or output.", 25 S7A "Source Terminal 7A. This pin can be input or output.", 26 S8A "Source Terminal 8A. This pin can be input or output.", 27 VSS (power) "Most Negative Power Supply Potential. In single-supply applications, this pin can be connected to ground.", 28 DA "Drain Terminal A. This pin can be an input or an output."

## ADG407BPZ-RL
designator U?
LC2MOS 8-Channel High Performance Analog Multiplexer, 50 Ohm / 90 Ohm Ron, 28-pin PLCC (P-28), Reel; Manufacturer: Analog Devices; PartNumber: ADG407BPZ-RL; Max Analog Signal Range: Vss to Vdd; Ron (ohms): 50; t transition (s): 120n; DatasheetVersion: Rev. B; PackageVersion: 042508-A, 04/2008; PackageReference: P-28; PackageDescription: 28-Pin Plastic Leaded Chip Carrier, Body 11.51 x 11.51 mm, Pitch 1.27 mm; Supplier 1: Mouser; Supplier Part Number 1: N/A; Packing: Reel; Mounting Technology: Surface Mount; Code_JEDEC: MO-047-AB; ComponentLink1Description: Manufacturer URL; ComponentLink1URL: http://www.analog.com/en/index.html; ComponentLink2Description: Datasheet; ComponentLink2URL: http://www.analog.com/static/imported-files/data_sheets/ADG406_407_426.pdf; ComponentLink3Description: Package Specification; ComponentLink3URL: http://www.analog.com/static/imported-files/packages/PKG_PDF/PLCC(P)/P_28.pdf
footprint ADI-P-28_N (PLCC, 28-Leads, Body 11.51x11.51mm, Pitch 1.27mm, IPC Medium Density)
footprint ADI-P-28_L (PLCC, 28-Leads, Body 11.51x11.51mm, Pitch 1.27mm, IPC High Density)
footprint ADI-P-28_M (PLCC, 28-Leads, Body 11.51x11.51mm, Pitch 1.27mm, IPC Low Density)
pins: 1 VDD (power) "Most Positive Power Supply Potential.", 2 DB "Drain Terminal B. This pin can be an input or an output.", 3 NC "No Connect.", 4 S8B "Source Terminal 8B . This pin can be input or output.", 5 S7B "Source Terminal 7B . This pin can be input or output.", 6 S6B "Source Terminal 6B . This pin can be input or output.", 7 S5B "Source Terminal 5B . This pin can be input or output.", 8 S4B "Source Terminal 4B . This pin can be input or output.", 9 S3B "Source Terminal 3B . This pin can be input or output.", 10 S2B "Source Terminal 2B . This pin can be input or output.", 11 S1B "Source Terminal 1B . This pin can be input or output.", 12 GND (power) "Ground (0 V) Reference.", 13 NC "No Connect.", 14 NC "No Connect.", 15 A2 (in) "Logic Control Input.", 16 A1 (in) "Logic Control Input.", 17 A0 (in) "Logic Control Input.", 18 EN (in) "Active High Digital Input. When this pin is low, the device is disabled and all switches are turned off. When this pin is high, the Ax logic inputs determine which switch is turned on.", 19 S1A "Source Terminal 1A. This pin can be input or output.", 20 S2A "Source Terminal 2A. This pin can be input or output.", 21 S3A "Source Terminal 3A. This pin can be input or output.", 22 S4A "Source Terminal 4A. This pin can be input or output.", 23 S5A "Source Terminal 5A. This pin can be input or output.", 24 S6A "Source Terminal 6A. This pin can be input or output.", 25 S7A "Source Terminal 7A. This pin can be input or output.", 26 S8A "Source Terminal 8A. This pin can be input or output.", 27 VSS (power) "Most Negative Power Supply Potential. In single-supply applications, this pin can be connected to ground.", 28 DA "Drain Terminal A. This pin can be an input or an output."

## ADG408BN
designator U?
LC2MOS 8-Channel High Performance Analog Multiplexer, 40 Ohm / 90 Ohm Ron, 16-pin DIP (N-16), Tube; Manufacturer: Analog Devices; PartNumber: ADG408BN; Max Analog Signal Range: Vss to Vdd; Ron (ohms): 40; t transition (s): 120n; DatasheetVersion: Rev. C; PackageVersion: 070706-A, 07/2006; PackageReference: N-16; PackageDescription: 16-Pin Plastic Dual In-Line Package, Row spacing 7.62 mm, Pitch 2.54 mm; Supplier 1: Digi-Key; Supplier Part Number 1: ADG408BN-ND; Supplier 2: Mouser; Supplier Part Number 2: 584-ADG408BN; Packing: Tube; Mounting Technology: Through Hole; Code_JEDEC: MS-001; ComponentLink1Description: Manufacturer URL; ComponentLink1URL: http://www.analog.com/en/index.html; ComponentLink2Description: Datasheet; ComponentLink2URL: http://www.analog.com/static/imported-files/data_sheets/ADG408_409.pdf; ComponentLink3Description: Package Specification; ComponentLink3URL: http://www.analog.com/static/imported-files/packages/44768431550332N_16.pdf
footprint ADI-N-16 (DIP, 16-Leads, Body 20.07x6.6mm, Pitch 2.54mm)
pins: 1 A0 (in) "Logic Control Input", 2 EN (in) "Active High Digital Input. When low, the device is disabled and all switches are off.When high, Ax logic inputs determine on switches.", 3 VSS (power) "Most Negative Power Supply Potential in Dual Supplies. In single-supply applications, it can be connected to ground.", 4 S1 "Source Terminal 1. Can be an input or an output.", 5 S2 "Source Terminal 2. Can be an input or an output.", 6 S3 "Source Terminal 3. Can be an input or an output.", 7 S4 "Source Terminal 4. Can be an input or an output.", 8 D "Drain Terminal . Can be an input or an output.", 9 S8 "Source Terminal 8. Can be an input or an output.", 10 S7 "Source Terminal 7. Can be an input or an output.", 11 S6 "Source Terminal 6. Can be an input or an output.", 12 S5 "Source Terminal 5. Can be an input or an output.", 13 VDD (power) "Most Positive Power Supply Potential", 14 GND (power) "Ground (0 V) Reference.", 15 A2 (in) "Logic Control Input", 16 A1 (in) "Logic Control Input"

## ADG408BNZ
designator U?
LC2MOS 8-Channel High Performance Analog Multiplexer, 40 Ohm / 90 Ohm Ron, 16-pin DIP (N-16), Tube; Manufacturer: Analog Devices; PartNumber: ADG408BNZ; Max Analog Signal Range: Vss to Vdd; Ron (ohms): 40; t transition (s): 120n; DatasheetVersion: Rev. C; PackageVersion: 070706-A, 07/2006; PackageReference: N-16; PackageDescription: 16-Pin Plastic Dual In-Line Package, Row spacing 7.62 mm, Pitch 2.54 mm; Supplier 1: Digi-Key; Supplier Part Number 1: ADG408BNZ-ND; Supplier 2: Farnell; Supplier Part Number 2: 9605584; Supplier 3: Newark; Supplier Part Number 3: 19M0674; Supplier 4: Mouser; Supplier Part Number 4: 584-ADG408BNZ; Packing: Tube; Mounting Technology: Through Hole; Code_JEDEC: MS-001; ComponentLink1Description: Manufacturer URL; ComponentLink1URL: http://www.analog.com/en/index.html; ComponentLink2Description: Datasheet; ComponentLink2URL: http://www.analog.com/static/imported-files/data_sheets/ADG408_409.pdf; ComponentLink3Description: Package Specification; ComponentLink3URL: http://www.analog.com/static/imported-files/packages/44768431550332N_16.pdf
footprint ADI-N-16 (DIP, 16-Leads, Body 20.07x6.6mm, Pitch 2.54mm)
pins: 1 A0 (in) "Logic Control Input", 2 EN (in) "Active High Digital Input. When low, the device is disabled and all switches are off.When high, Ax logic inputs determine on switches.", 3 VSS (power) "Most Negative Power Supply Potential in Dual Supplies. In single-supply applications, it can be connected to ground.", 4 S1 "Source Terminal 1. Can be an input or an output.", 5 S2 "Source Terminal 2. Can be an input or an output.", 6 S3 "Source Terminal 3. Can be an input or an output.", 7 S4 "Source Terminal 4. Can be an input or an output.", 8 D "Drain Terminal . Can be an input or an output.", 9 S8 "Source Terminal 8. Can be an input or an output.", 10 S7 "Source Terminal 7. Can be an input or an output.", 11 S6 "Source Terminal 6. Can be an input or an output.", 12 S5 "Source Terminal 5. Can be an input or an output.", 13 VDD (power) "Most Positive Power Supply Potential", 14 GND (power) "Ground (0 V) Reference.", 15 A2 (in) "Logic Control Input", 16 A1 (in) "Logic Control Input"

## ADG408BR
designator U?
LC2MOS 8-Channel High Performance Analog Multiplexer, 40 Ohm / 90 Ohm Ron, 16-pin SOIC (R-16), Tube; Manufacturer: Analog Devices; PartNumber: ADG408BR; Max Analog Signal Range: Vss to Vdd; Ron (ohms): 40; t transition (s): 120n; DatasheetVersion: Rev. C; PackageVersion: 060606-A, 06/2006; PackageReference: R-16; PackageDescription: 16-Pin Standard Small Outline Package, Body 9.9 x 3.9 mm, Pitch 1.27 mm; Supplier 1: Digi-Key; Supplier Part Number 1: ADG408BR-ND; Supplier 2: Newark; Supplier Part Number 2: 05F6196; Supplier 3: Mouser; Supplier Part Number 3: 584-ADG408BR; Packing: Tube; Mounting Technology: Surface Mount; Code_JEDEC: MS-012-AC; ComponentLink1Description: Manufacturer URL; ComponentLink1URL: http://www.analog.com/en/index.html; ComponentLink2Description: Datasheet; ComponentLink2URL: http://www.analog.com/static/imported-files/data_sheets/ADG408_409.pdf; ComponentLink3Description: Package Specification; ComponentLink3URL: http://www.analog.com/static/imported-files/packages/PKG_PDF/SOIC_Narrow%20(R)/R_16.pdf
footprint ADI-R-16_N (SOIC, 16-Leads, Body 9.9x3.9mm, Pitch 1.27mm, IPC Medium Density)
footprint ADI-R-16_L (SOIC, 16-Leads, Body 9.9x3.9mm, Pitch 1.27mm, IPC High Density)
footprint ADI-R-16_M (SOIC, 16-Leads, Body 9.9x3.9mm, Pitch 1.27mm, IPC Low Density)
pins: 1 A0 (in) "Logic Control Input.", 2 EN (in) "Active High Digital Input.", 3 VSS (power) "Most Negative Power Supply Potential in Dual Supplies. In single-supply applications, it can be connected to ground.", 4 S1 "Source Terminal 1. Can be an input or  an output.", 5 S2 "Source Terminal 2. Can be an input or  an output.", 6 S3 "Source Terminal 3. Can be an input or  an output.", 7 S4 "Source Terminal 4. Can be an input or  an output.", 8 D "Drain Terminal . Can be an input or  an output.", 9 S8 "Source Terminal 8. Can be an input or  an output.", 10 S7 "Source Terminal 7. Can be an input or  an output.", 11 S6 "Source Terminal 6. Can be an input or  an output.", 12 S5 "Source Terminal 5. Can be an input or  an output.", 13 VDD (power) "Most Positive Power Supply Potential.", 14 GND (power) "Ground (0 V) Reference.", 15 A2 (in) "Logic Control Input.", 16 A1 (in) "Logic Control Input."

## ADG408BR-REEL
designator U?
LC2MOS 8-Channel High Performance Analog Multiplexer, 40 Ohm / 90 Ohm Ron, 16-pin SOIC (R-16), Reel; Manufacturer: Analog Devices; PartNumber: ADG408BR-REEL; Max Analog Signal Range: Vss to Vdd; Ron (ohms): 40; t transition (s): 120n; DatasheetVersion: Rev. C; PackageVersion: 060606-A, 06/2006; PackageReference: R-16; PackageDescription: 16-Pin Standard Small Outline Package, Body 9.9 x 3.9 mm, Pitch 1.27 mm; Supplier 1: Digi-Key; Supplier Part Number 1: ADG408BR-REEL-ND; Supplier 2: Newark; Supplier Part Number 2: 09B7009; Supplier 3: Mouser; Supplier Part Number 3: 584-ADG408BR-R; Packing: Reel; Mounting Technology: Surface Mount; Code_JEDEC: MS-012-AC; ComponentLink1Description: Manufacturer URL; ComponentLink1URL: http://www.analog.com/en/index.html; ComponentLink2Description: Datasheet; ComponentLink2URL: http://www.analog.com/static/imported-files/data_sheets/ADG408_409.pdf; ComponentLink3Description: Package Specification; ComponentLink3URL: http://www.analog.com/static/imported-files/packages/PKG_PDF/SOIC_Narrow%20(R)/R_16.pdf
footprint ADI-R-16_N (SOIC, 16-Leads, Body 9.9x3.9mm, Pitch 1.27mm, IPC Medium Density)
footprint ADI-R-16_L (SOIC, 16-Leads, Body 9.9x3.9mm, Pitch 1.27mm, IPC High Density)
footprint ADI-R-16_M (SOIC, 16-Leads, Body 9.9x3.9mm, Pitch 1.27mm, IPC Low Density)
pins: 1 A0 (in) "Logic Control Input.", 2 EN (in) "Active High Digital Input.", 3 VSS (power) "Most Negative Power Supply Potential in Dual Supplies. In single-supply applications, it can be connected to ground.", 4 S1 "Source Terminal 1. Can be an input or  an output.", 5 S2 "Source Terminal 2. Can be an input or  an output.", 6 S3 "Source Terminal 3. Can be an input or  an output.", 7 S4 "Source Terminal 4. Can be an input or  an output.", 8 D "Drain Terminal . Can be an input or  an output.", 9 S8 "Source Terminal 8. Can be an input or  an output.", 10 S7 "Source Terminal 7. Can be an input or  an output.", 11 S6 "Source Terminal 6. Can be an input or  an output.", 12 S5 "Source Terminal 5. Can be an input or  an output.", 13 VDD (power) "Most Positive Power Supply Potential.", 14 GND (power) "Ground (0 V) Reference.", 15 A2 (in) "Logic Control Input.", 16 A1 (in) "Logic Control Input."